# EAGLE library part ADG819 (library parts)
0.5 Ω, CMOS, 1.8 V to 5.5 V, 2:1 Mux/SPDT Switch
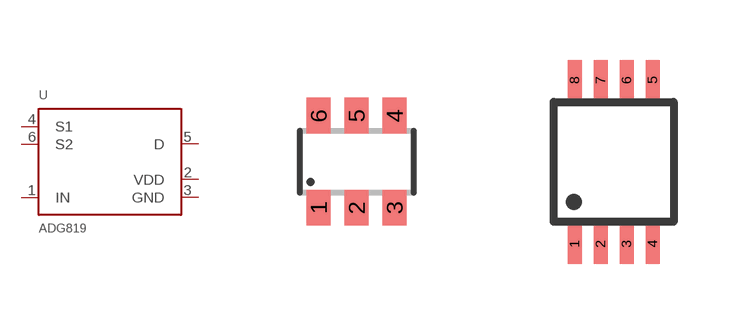
[diagram p16: symbol with the pads of SOT23-6; footprints SOT23-6, MSOP8]

Designator prefix U

## ADG819BRT (RS: 796-8956)  [SOT23-6]
1  IN  in
2  VDD  pwr
3  GND  pwr
4  S1
5  D
6  S2

## ADG819BRM (RS: 538-7093)  [MSOP8]
1  D
2  S1
3  GND  pwr
4  VDD  pwr
6  IN  in
8  S2

## Footprint SOT23-6 (pad centres in mm)
Small Outline Transistor 6 lead
smd 0.6 x 0.9: 1 -0.95,-1.15; 2 0,-1.15; 3 0.95,-1.15; 4 0.95,1.15; 5 0,1.15; 6 -0.95,1.15

## Footprint MSOP8 (pad centres in mm)
Micro Small Outline Package Grid .65mm
smd 0.35 x 1: 1 -0.975,-2.05; 2 -0.325,-2.05; 3 0.325,-2.05; 4 0.975,-2.05; 5 0.975,2.05; 6 0.325,2.05; 7 -0.325,2.05; 8 -0.975,2.05